# Altium footprint library 105 Banana.PcbLib: 1 footprints
Each footprint in its own frame and in the unit in brackets; x right, y up, seen from the top. Pads: shape width x height; smd on the part's side, far side on the other; paste and mask are expansions set on the pad; w line width, h text height; cw(c..) or ccw(c..) is an arc to the next point about the centre after c.
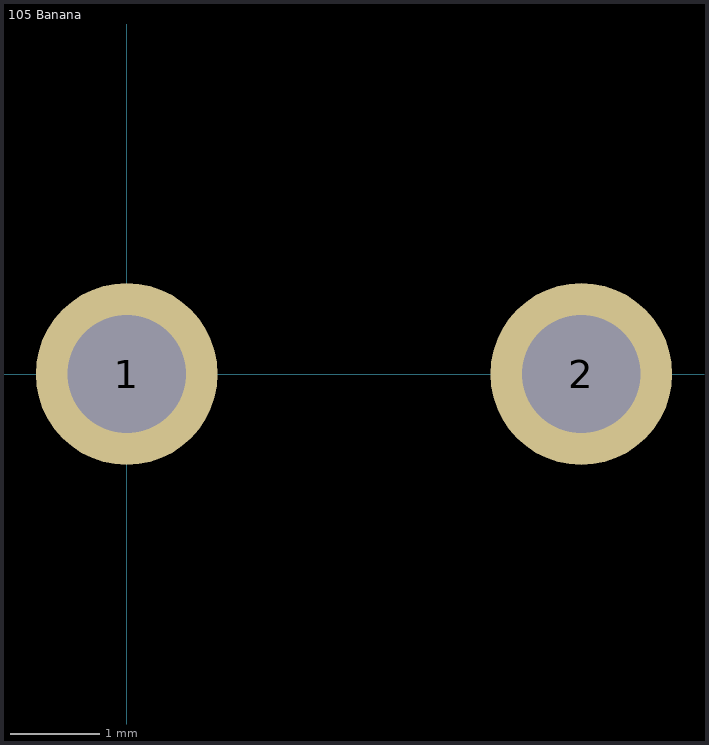
[diagram p0: the footprint, top view; thin cyan lines are the x and y axes]

## 105 Banana [mil] "105 Series PCB mount Banana Jack"
height 203
pads (2):
  round 80 hole 52: 1(0,0) 2(200,0)
3D body: height 180, standoff 120, extent -24.8,-24.95 25,24.95
3D body: height 203, standoff 0, extent -6,-73.5 206,73.5